# EAGLE library part TIL6V (library 5559)
ТИЛ6В Трансформаторы импульсные линейные с высоким значением импеданса линейной обмотки предназначены для гальванической развязки и согласования абонентов с мультиплексным каналом информационного обмена. More info <http://mstator.ru/products/pulse_transformers/til>
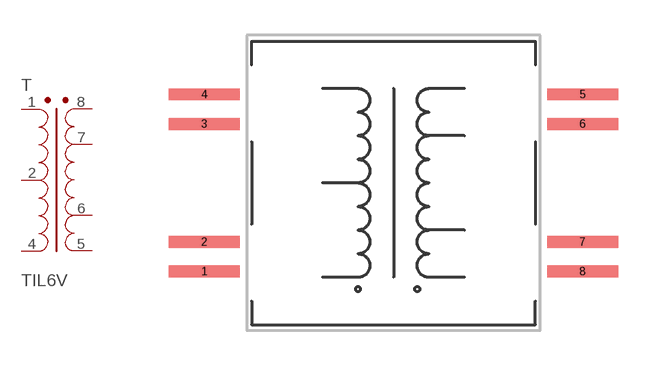
[diagram p3: symbol with the pads of TIL6V; footprint TIL6V]

Designator prefix T

## TIL6V  [TIL6V]
1  1  pas
2  2  pas
4  4  pas
5  5  pas
6  6  pas
7  7  pas
8  8  pas

## Footprint TIL6V (pad centres in mm)
smd 3 x 0.5: 1 -8,-3.75; 2 -8,-2.5; 3 -8,2.5; 4 -8,3.75; 5 8,3.75; 6 8,2.5; 7 8,-2.5; 8 8,-3.75